# Altium footprint library SR PCB Library V01.PcbLib: 402 footprints (part 6 of 26)
Each footprint in its own frame and in the unit in brackets; x right, y up, seen from the top. Pads: shape width x height; smd on the part's side, far side on the other; paste and mask are expansions set on the pad; w line width, h text height; cw(c..) or ccw(c..) is an arc to the next point about the centre after c.
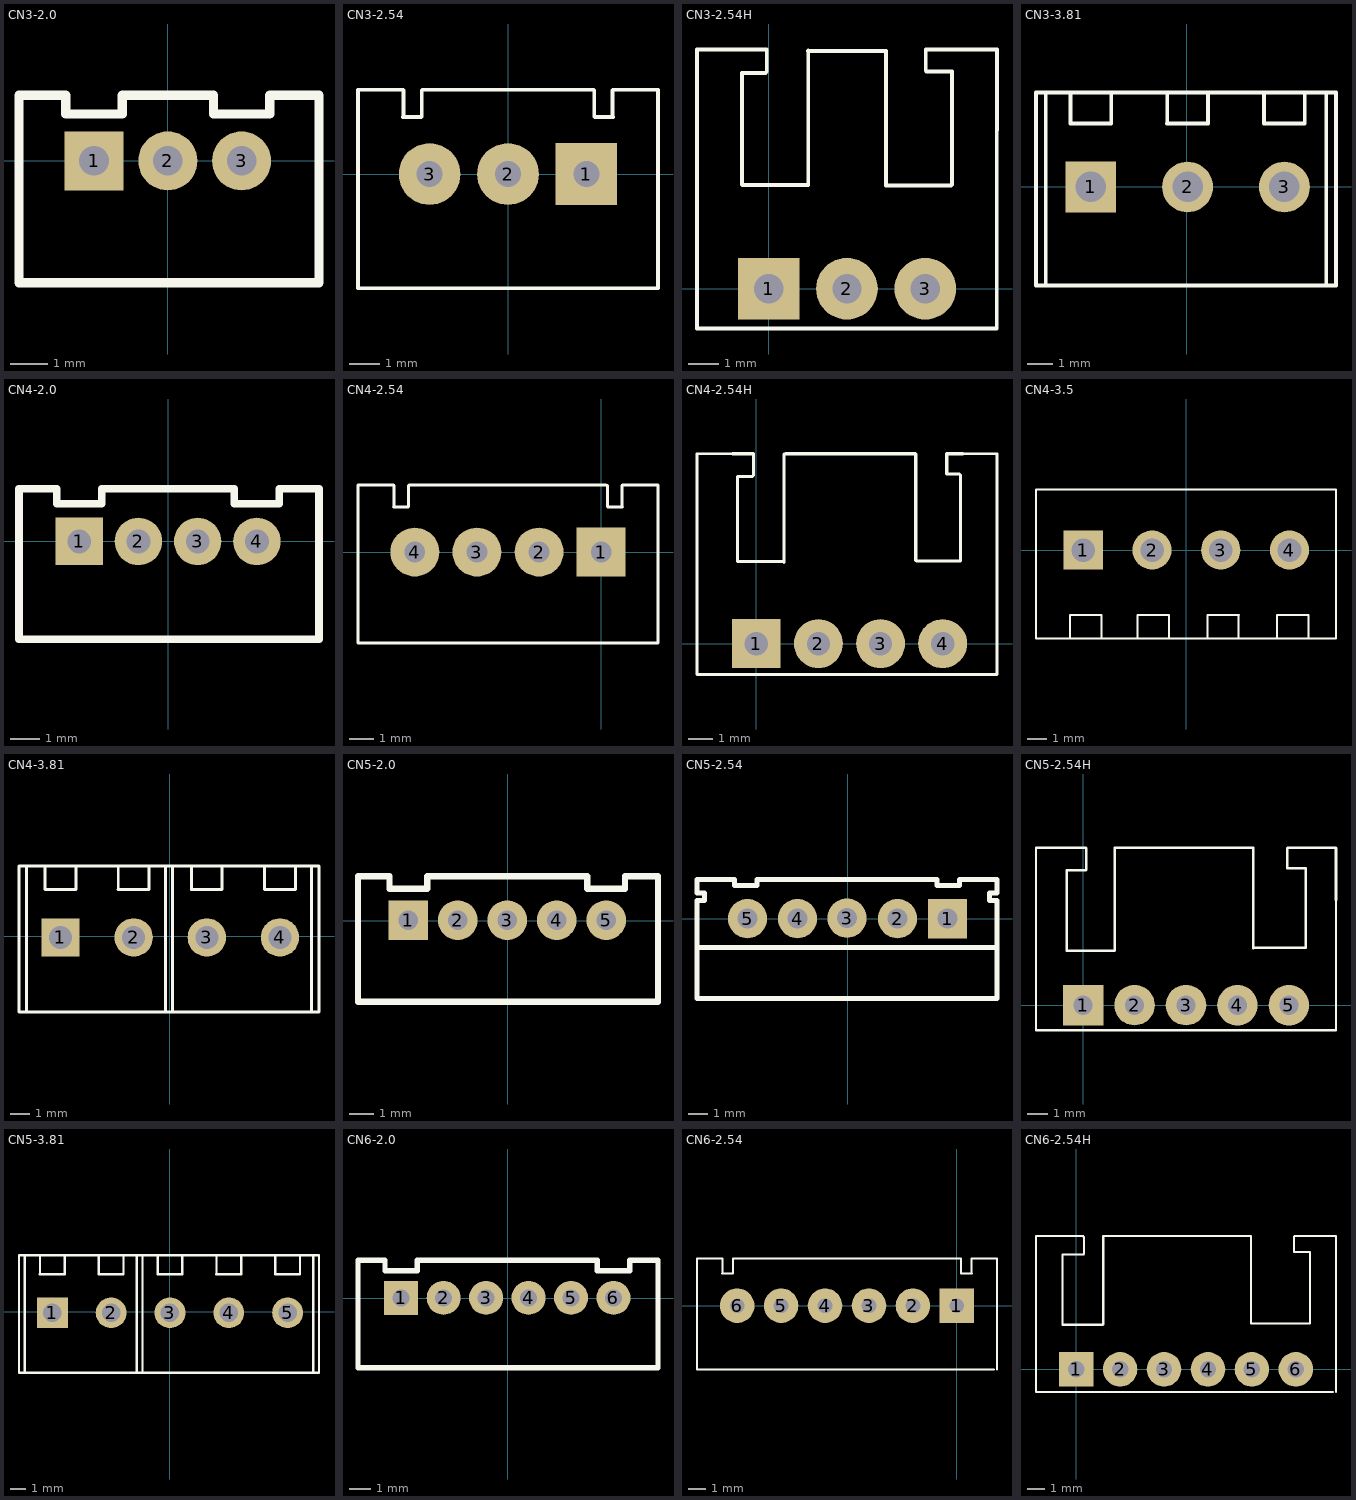
[diagram p5: the footprints below, top view; thin cyan lines are the x and y axes]

## CN3-2.0 [mm]
pads (3):
  rect 1.6x1.6 hole 0.8: 1(-2,0)
  round 1.6 hole 0.8: 2(0,0) 3(2,0)
Top Overlay:
  lines w0.254: -4.032,-3.302 -4.032,1.778 -2.762,1.778 -2.762,1.27 -1.238,1.27 -1.238,1.778 1.238,1.778 1.238,1.27 2.762,1.27 2.762,1.778 4.096,1.778 4.096,-3.302 -4.032,-3.302

## CN3-2.54 [mm]
pads (3):
  rect 2x2 hole 0.85: 1(2.54,0)
  round 2 hole 0.85: 2(0,0) 3(-2.54,0)
Top Overlay:
  lines w0.12: -3.403,1.851 -2.809,1.851 ; -3.386,1.868 -3.386,2.716 -3.403,2.733 -4.862,2.733 -4.862,-3.7 4.862,-3.7 4.862,2.733 3.403,2.733 3.386,2.716 3.386,1.868 ; -2.792,1.868 -2.792,2.716 ; -2.775,2.733 2.769,2.733 ; 2.792,1.868 2.792,2.716 ; 2.809,1.851 3.403,1.851

## CN3-2.54H [mm]
height 11
pads (3):
  rect 2x2 hole 0.95: 1(0,0)
  round 2 hole 0.95: 2(2.54,0) 3(5.08,0)
Top Overlay:
  lines w0.12: -2.322,7.713 -2.322,-1.287 7.402,-1.287 7.402,5.146 ; 1.265,7.711 3.809,7.711
  lines w0.127: -2.322,7.755 -0.061,7.755 -0.061,7.044 -0.112,6.993 ; -0.863,3.372 -0.863,6.993 ; -0.849,3.361 1.259,3.361 ; -0.823,6.993 -0.093,6.993 ; 1.285,3.361 1.285,7.73 ; 3.809,7.711 3.809,3.352 5.924,3.352 ; 5.943,3.371 5.943,7.044 5.12,7.044 5.095,7.07 5.095,7.755 7.406,7.755 7.406,7.73 ; 7.402,5.146 7.402,7.69

## CN3-3.81 [mm]
pads (3):
  rect 2x2 hole 1.2: 1(-3.785,0)
  round 2 hole 1.2: 2(0.025,0) 3(3.835,0)
Top Overlay:
  lines w0.15: -5.563,-3.88 -5.563,3.7 ; -4.585,3.7 -4.585,2.51 -4.595,2.5 -2.985,2.5 ; -2.134,-3.88 5.867,-3.88 5.867,3.721 -2.134,3.721 ; 2.057,-3.88 -5.944,-3.88 -5.944,3.721 2.057,3.721 ; 3.035,3.7 3.035,2.51 3.025,2.5 4.635,2.5 4.635,3.69 4.625,3.7 ; 5.486,-3.88 5.486,3.7 ; -2.985,2.5 -2.985,3.69 ; -2.985,2.5 -2.985,3.69 ; -2.985,3.69 -2.995,3.7 -2.985,3.69 ; -0.785,2.5 -0.775,2.51 ; -0.785,2.5 0.825,2.5 ; -0.785,2.5 -0.775,2.51 ; -0.785,2.5 0.825,2.5 ; -0.775,2.51 -0.775,3.7 -0.775,2.51 ; 0.815,3.7 0.825,3.69 ; 0.815,3.7 0.825,3.69 ; 0.815,3.7 0.825,3.69 ; 0.825,2.5 0.825,3.69 ; 0.825,2.5 0.825,3.69 ; 0.825,2.5 0.825,3.69

## CN4-2.0 [mm]
pads (4):
  rect 1.6x1.6 hole 0.8: 1(-3,0)
  round 1.6 hole 0.8: 2(-1,0) 3(1,0) 4(3,0)
Top Overlay:
  lines w0.254: -3.032,-3.302 5.096,-3.302 5.096,1.778 3.762,1.778 3.762,1.27 2.238,1.27 2.238,1.778 -0.238,1.778 ; 0.238,1.778 -2.238,1.778 -2.238,1.27 -3.762,1.27 -3.762,1.778 -5.032,1.778 -5.032,-3.302 3.096,-3.302

## CN4-2.54 [mm]
pads (4):
  rect 2x2 hole 0.85: 1(0,0)
  round 2 hole 0.85: 2(-2.54,0) 3(-5.08,0) 4(-7.62,0)
Top Overlay:
  lines w0.12: -8.483,1.851 -7.889,1.851 ; -8.466,1.868 -8.466,2.716 -8.483,2.733 -9.942,2.733 -9.942,-3.708 2.322,-3.708 2.322,2.733 0.863,2.733 0.846,2.716 0.846,1.868 ; -7.872,1.868 -7.872,2.716 ; -7.855,2.733 0.203,2.733 ; 0.252,1.868 0.252,2.716 ; 0.269,1.851 0.863,1.851

## CN4-2.54H [mm]
height 11
pads (4):
  rect 2x2 hole 0.95: 1(0,0)
  round 2 hole 0.95: 2(2.54,0) 3(5.08,0) 4(7.62,0)
Top Overlay:
  lines w0.12: -2.424,7.755 -2.424,-1.262 7.3,-1.262 ; -2.424,7.762 -0.965,7.762 ; 1.163,7.762 5.273,7.757 ; 8.381,7.762 9.84,7.762 9.84,-1.262
  lines w0.127: -0.965,7.762 -0.122,7.762 ; -0.153,7.762 -0.112,7.722 -0.112,6.883 -0.163,6.833 -0.773,6.833 -0.773,3.353 1.107,3.353 1.132,3.327 1.132,7.747 ; 1.189,7.762 6.512,7.762 ; 5.146,7.757 6.517,7.757 ; 6.517,7.722 6.517,3.404 6.543,3.378 7.914,3.378 ; 7.264,-1.262 9.821,-1.262 ; 7.787,7.772 7.787,6.934 8.295,6.934 8.346,6.883 8.346,3.378 7.863,3.378 ; 7.797,7.762 8.448,7.762

## CN4-3.5 [mm] "欧式接线端子，KF2EDGV-Y-3.5-4P-14，4PIN，3.5mm，公母头套装"
height 10
pads (4):
  rect 2x2 hole 1.2: 1(-5.25,0)
  round 2 hole 1.2: 2(-1.75,0) 3(1.75,0) 4(5.25,0)
Top Overlay:
  lines w0.1: -5.911,-4.5 -5.921,-4.49 -5.921,-3.3 -4.311,-3.3 -4.321,-3.31 -4.321,-4.5 ; -2.482,-4.5 -2.492,-4.49 -2.492,-3.3 -0.882,-3.3 -0.892,-3.31 -0.892,-4.5 ; 1.074,-4.5 1.064,-4.49 1.064,-3.3 2.674,-3.3 2.664,-3.31 2.664,-4.5 ; 4.63,-4.5 4.62,-4.49 4.62,-3.3 6.23,-3.3 6.22,-3.31 6.22,-4.5 ; -7.661,-4.5 7.62,-4.5 7.62,3.08 -7.661,3.08 -7.661,-4.5

## CN4-3.81 [mm]
pads (4):
  rect 2x2 hole 1.2: 1(-5.69,-0.051)
  round 2 hole 1.2: 2(-1.88,-0.051) 3(1.93,-0.051) 4(5.74,-0.051)
Top Overlay:
  lines w0.15: -7.468,-3.931 -7.468,3.649 ; -6.49,3.649 -6.49,2.459 -6.5,2.449 -4.89,2.449 ; -2.68,3.649 -2.68,2.459 -2.69,2.449 -1.08,2.449 -1.08,3.639 -1.09,3.649 ; -0.229,3.649 -0.229,-3.931 ; 0.152,3.649 0.152,-3.931 ; 1.13,3.649 1.13,2.459 1.12,2.449 2.73,2.449 ; 4.94,3.649 4.94,2.459 4.93,2.449 6.54,2.449 6.54,3.639 6.53,3.649 ; 7.391,-3.931 7.391,3.649 ; -4.89,2.449 -4.89,3.639 ; -4.89,2.449 -4.89,3.639 ; -4.89,3.639 -4.9,3.649 -4.89,3.639 ; -0.229,-3.931 -0.229,3.67 7.772,3.67 7.772,-3.931 -0.229,-3.931 ; 0.152,-3.931 0.152,3.67 -7.849,3.67 -7.849,-3.931 0.152,-3.931 ; 2.73,2.449 2.73,3.639 ; 2.73,2.449 2.73,3.639 ; 2.73,3.639 2.72,3.649 2.73,3.639

## CN5-2.0 [mm]
pads (5):
  rect 1.6x1.6 hole 0.8: 1(-4.025,0.025)
  round 1.6 hole 0.8: 2(-2.025,0.025) 3(-0.025,0.025) 4(1.975,0.025) 5(3.975,0.025)
Top Overlay:
  lines w0.254: -2.057,-3.277 6.071,-3.277 6.071,1.803 4.737,1.803 4.737,1.295 3.213,1.295 3.213,1.803 ; 2.071,-3.277 -6.057,-3.277 -6.057,1.803 -4.787,1.803 -4.787,1.295 -3.263,1.295 -3.263,1.803 3.175,1.803

## CN5-2.54 [mm]
pads (5):
  rect 2x2 hole 1: 1(5.08,0)
  round 2 hole 1: 2(2.54,0) 3(-0.025,0.025) 4(-2.54,0) 5(-5.08,0)
Top Overlay:
  lines w0.254: -7.645,-1.465 -0.025,-1.465 7.595,-1.465 ; -5.74,1.676 -5.74,1.975 -7.645,1.975 -7.645,1.295 -7.264,1.295 -7.264,0.914 -7.645,0.914 -7.645,-4.055 -0.025,-4.055 7.595,-4.055 7.595,0.914 7.214,0.914 7.214,1.295 7.595,1.295 7.595,1.975 5.69,1.975 5.69,1.676 4.547,1.676 4.547,1.975 ; -5.74,1.702 -5.715,1.676 -4.597,1.676 -4.597,1.975 ; -5.105,-4.055 2.515,-4.055 ; -5.105,-1.465 2.515,-1.465 ; -4.597,1.981 4.521,1.981 ; -2.565,-4.055 5.055,-4.055 ; -2.565,-1.465 5.055,-1.465

## CN5-2.54H [mm]
height 11
pads (5):
  rect 2x2 hole 0.95: 1(0,0)
  round 2 hole 0.95: 2(2.54,0) 3(5.08,0) 4(7.617,-0.008) 5(10.157,-0.008)
Top Overlay:
  lines w0.12: -2.322,7.762 -0.863,7.762 ; -2.322,7.764 -2.322,-1.236 7.402,-1.236 ; 1.565,7.762 5.309,7.762 ; 11.023,7.762 12.482,7.762 ; 12.482,-1.236 12.482,5.197
  lines w0.127: -0.874,7.762 0.135,7.762 0.167,7.73 0.167,6.689 0.142,6.663 -0.798,6.663 -0.798,2.675 -0.646,2.675 1.539,2.675 1.565,2.702 1.565,7.762 ; 5.248,7.757 7.872,7.757 8.391,7.757 8.391,2.809 8.41,2.828 10.988,2.828 10.988,6.765 10.073,6.765 ; 7.391,-1.236 9.931,-1.236 ; 9.906,-1.236 12.463,-1.236 ; 10.073,6.79 10.073,7.73 ; 12.482,5.197 12.482,7.741 ; 10.099,7.762 11.023,7.762 10.099,7.762

## CN5-3.81 [mm]
pads (5):
  rect 2x2 hole 1.2: 1(-7.62,-0.051)
  round 2 hole 1.2: 2(-3.81,-0.051) 3(0,-0.051) 4(3.81,-0.051) 5(7.62,-0.051)
Top Overlay:
  lines w0.15: -9.398,-3.931 -9.398,3.649 ; -8.42,3.649 -8.42,2.459 -8.43,2.449 -6.82,2.449 ; -4.61,3.649 -4.61,2.459 -4.62,2.449 -3.01,2.449 -3.01,3.639 -3.02,3.649 ; -2.159,3.649 -2.159,-3.931 ; -1.778,3.649 -1.778,-3.931 ; -0.8,3.649 -0.8,2.459 -0.81,2.449 0.8,2.449 ; 1.651,-3.931 9.652,-3.931 9.652,3.67 1.651,3.67 ; 5.842,-3.931 -2.159,-3.931 ; 5.842,3.67 -2.159,3.67 -2.159,-3.931 ; 6.82,3.649 6.82,2.459 6.81,2.449 8.42,2.449 8.42,3.639 8.41,3.649 ; 9.271,-3.931 9.271,3.649 ; -6.82,2.449 -6.82,3.639 ; -6.82,2.449 -6.82,3.639 ; -6.82,3.639 -6.83,3.649 -6.82,3.639 ; -1.778,-3.931 -1.778,3.67 -9.779,3.67 -9.779,-3.931 -1.778,-3.931 ; 0.8,2.449 0.8,3.639 ; 0.8,2.449 0.8,3.639 ; 0.8,3.639 0.79,3.649 0.8,3.639 ; 3,2.449 4.61,2.449 ; 3,2.449 3.01,2.459 ; 3,2.449 4.61,2.449 ; 3,2.449 3.01,2.459 ; 3.01,2.459 3.01,3.649 3.01,2.459 ; 4.6,3.649 4.61,3.639 ; 4.6,3.649 4.61,3.639 ; 4.6,3.649 4.61,3.639 ; 4.61,2.449 4.61,3.639 ; 4.61,2.449 4.61,3.639 ; 4.61,2.449 4.61,3.639

## CN6-2.0 [mm]
pads (6):
  rect 1.6x1.6 hole 0.8: 1(-5.025,0.025)
  round 1.6 hole 0.8: 2(-3.025,0.025) 3(-1.025,0.025) 4(0.975,0.025) 5(2.975,0.025) 6(4.975,0.025)
Top Overlay:
  lines w0.254: -1.057,-3.277 7.071,-3.277 7.071,1.803 5.737,1.803 5.737,1.295 4.213,1.295 4.213,1.803 ; 1.071,-3.277 -7.057,-3.277 -7.057,1.803 -5.787,1.803 -5.787,1.295 -4.263,1.295 -4.263,1.803 4.175,1.803

## CN6-2.54 [mm]
pads (6):
  rect 2x2 hole 0.85: 1(0,0)
  round 2 hole 0.85: 2(-2.54,0) 3(-5.08,0) 4(-7.62,0) 5(-10.16,0) 6(-12.7,0)
Top Overlay:
  lines w0.12: -13.563,1.851 -12.969,1.851 ; -13.546,1.868 -13.546,2.716 -13.563,2.733 -15.022,2.733 -15.022,-3.7 2.134,-3.7 ; -12.952,1.868 -12.952,2.716 ; -12.935,2.733 0.203,2.733 ; 0.252,1.868 0.252,2.716 ; 0.269,1.851 0.863,1.851 ; 0.846,1.868 0.846,2.716 0.863,2.733 2.322,2.733 2.322,-3.7

## CN6-2.54H [mm]
height 11
pads (6):
  rect 2x2 hole 0.95: 1(0,0)
  round 2 hole 0.95: 2(2.54,0) 3(5.08,0) 4(7.62,0) 5(10.16,0) 6(12.7,0)
Top Overlay:
  lines w0.12: -2.322,7.688 -2.322,-1.312 14.834,-1.312 ; -2.322,7.711 -0.863,7.711 ; 1.565,7.711 10.103,7.711 ; 13.563,7.711 15.022,7.711 ; 15.022,-1.312 15.022,5.121
  lines w0.127: -0.944,7.705 0.396,7.705 0.447,7.654 0.447,6.663 0.421,6.638 0.04,6.638 -0.773,6.638 -0.798,6.612 -0.798,2.574 1.539,2.574 1.565,2.6 1.565,7.711 ; 10.103,7.711 10.103,2.671 10.124,2.65 13.528,2.65 13.528,6.765 13.502,6.79 12.588,6.79 12.588,7.654 12.645,7.711 13.578,7.711 ; 15.022,5.088 15.022,7.711